# Altium schematic symbol library rotary_encoder_0.Schlib: 1 symbol
Pins are listed as number, name and electrical type; pins without a type are passive.

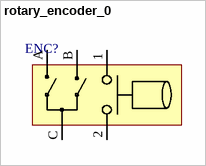
[diagram p0: symbol rotary_encoder_0]

## rotary_encoder_0
designator ENC?  (value not drawn)
pins: 1, 2, A (power), B (power), C (power)